# EAGLE library part MAX4995C (library MAX4995C - Programmable Current-Limit Switch)
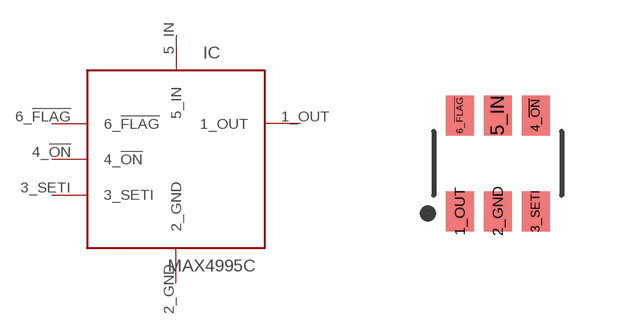
[diagram p0: symbol with the pads of SOT23-6; footprint SOT23-6]

Designator prefix IC

## MAX4995C  [SOT23-6]
1_OUT  1_OUT
2_GND  2_GND
3_SETI  3_SETI
4_!ON!  4_!ON!
5_IN  5_IN
6_!FLAG!  6_!FLAG!

## Footprint SOT23-6 (pad centres in mm)
smd 0.7 x 1: 1_OUT -0.95,-1.2; 2_GND 0,-1.2; 3_SETI 0.95,-1.2; 4_!ON! 0.95,1.2; 5_IN 0,1.2; 6_!FLAG! -0.95,1.2